# Altium schematic symbol library BQ25170J.SchLib: 1 symbol
Pins are listed as number, name and electrical type; pins without a type are passive.

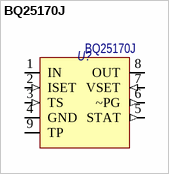
[diagram p0: symbol BQ25170J]

## BQ25170J
designator U?
800-mA JEITA-Compliant Linear Battery Charger for 1-Cell Li-Ion, LiPolymer, and LiFePO4; Потребление, Вт: 0,001; ComponentLink1Description: DataSheet; ComponentLink1URL: https://www.ti.com/lit/ds/symlink/bq25170j.pdf?ts=1636221072761&ref_url=https%253A%252F%252Fwww.ti.com%252Fproduct%252FBQ25170J; Назначение: 800-mA JEITA-Compliant Linear Battery Charger for 1-Cell Li-Ion, LiPolymer, and LiFePO4; Наименование: BQ25170J
pins: 1 IN (power), 2 ISET (in), 3 TS (in), 4 GND (power), 5 STAT (out), 6 ~PG (out), 7 VSET (in), 8 OUT (power), 9 TP (power)